# Altium schematic symbol library Power Modules.SchLib: 1 symbol
Pins are listed as number, name and electrical type; pins without a type are passive.

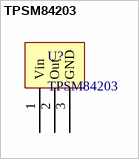
[diagram p0: symbol TPSM84203]

## TPSM84203
designator U?
TO-220 Powe Module 3.3V Output
footprint TPSM84203 (1.5A, 28V Input, 3.3V Output, TO-220 Power Module)
pins: 1 Vin (power), 2 Out (power), 3 GND (power)